# Altium schematic symbol library KAM15AR72A103KM.SchLib: 1 symbol
Pins are listed as number, name and electrical type; pins without a type are passive.

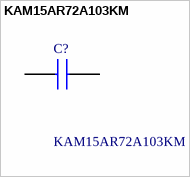
[diagram p0: symbol KAM15AR72A103KM]

## KAM15AR72A103KM
designator C?
10000 pF +/-10% 100V Ceramic Capacitor X7R 0603 (1608 Metric); Manufacturer_Name: Kyocera AVX; Geometry.Height: 0.9mm; Mouser Part Number: 581-KAM15AR72A103KM; Mouser Price/Stock: https://www.mouser.co.uk/ProductDetail/KYOCERA-AVX/KAM15AR72A103KM?qs=Jm2GQyTW%2FbidaKuPpnVTuw%3D%3D; Manufacturer_Part_Number: KAM15AR72A103KM; Datasheet Link: https://datasheets.kyocera-avx.com/AutoMLCCKAM.pdf
footprint CAPC1608X90N
pins: 1, 2